# Altium schematic symbol library SCH - POWER - SWITCHMODE - TI LM5145 RGY.SchLib: 1 symbol
Pins are listed as number, name and electrical type; pins without a type are passive.

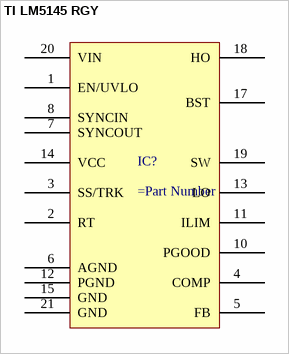
[diagram p0: symbol TI LM5145 RGY]

## TI LM5145 RGY
designator IC?
pins: 1 EN/UVLO, 2 RT, 3 SS/TRK, 4 COMP, 5 FB, 6 AGND, 7 SYNCOUT, 8 SYNCIN, 10 PGOOD, 11 ILIM, 12 PGND, 13 LO, 14 VCC, 15 GND, 17 BST, 18 HO, 19 SW, 20 VIN, 21 GND